# EAGLE library part DRV10983PWP (library DRV10983PWP)
Motor / Motion / Ignition Controllers & Drivers 24V,3 Ph Sensorless BLDC Motor Cntrlr Source: Datasheet <http://www.ti.com/lit/ds/symlink/drv10983.pdf>
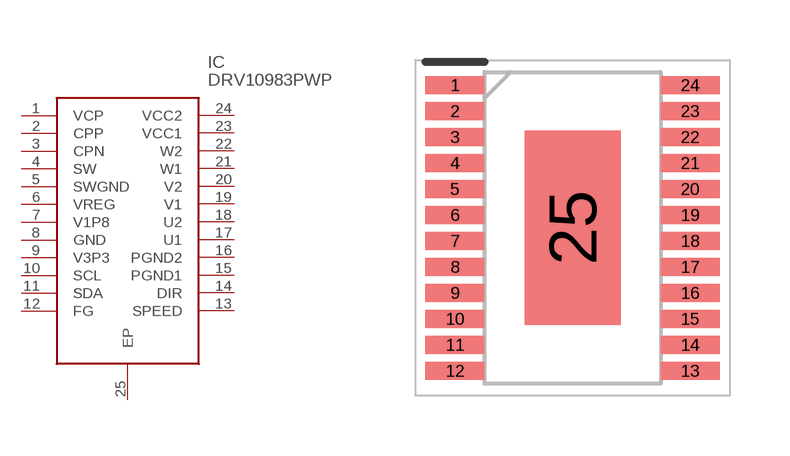
[diagram p0: symbol with the pads of SOP65P640X120-25N; footprint SOP65P640X120-25N]

Designator prefix IC

## DRV10983PWP (Arrow_Part_Number: DRV10983PWP; Arrow_Price/Stock: https://www.arrow.com/en/products/drv10983pwp/texas-instruments; Description: Motor / Motion / Ignition Controllers & Drivers 24V,3 Ph Sensorless BLDC Motor Cntrlr; Height: 1.2mm; Manufacturer_Name: Texas Instruments; Manufacturer_Part_Number: DRV10983PWP; RS_Part_Number: 9142948; RS_Price/Stock: http://uk.rs-online.com/web/p/products/9142948)  [SOP65P640X120-25N]
1  VCP
2  CPP
3  CPN
4  SW
5  SWGND  pwr
6  VREG
7  V1P8
8  GND  pwr
9  V3P3
10  SCL
11  SDA
12  FG
13  SPEED
14  DIR
15  PGND1  pwr
16  PGND2  pwr
17  U1
18  U2
19  V1
20  V2
21  W1
22  W2
23  VCC1  pwr
24  VCC2  pwr
25  EP  pwr

## Footprint SOP65P640X120-25N (pad centres in mm)
PWP (R-PDSO-G24)
smd 1.475 x 0.45: 1 -2.938,3.575; 2 -2.938,2.925; 3 -2.938,2.275; 4 -2.938,1.625; 5 -2.938,0.975; 6 -2.938,0.325; 7 -2.938,-0.325; 8 -2.938,-0.975; 9 -2.938,-1.625; 10 -2.938,-2.275; 11 -2.938,-2.925; 12 -2.938,-3.575; 13 2.938,-3.575; 14 2.938,-2.925; 15 2.938,-2.275; 16 2.938,-1.625; 17 2.938,-0.975; 18 2.938,-0.325; 19 2.938,0.325; 20 2.938,0.975; 21 2.938,1.625; 22 2.938,2.275; 23 2.938,2.925; 24 2.938,3.575
smd 2.4 x 4.87: 25 0,0